# EAGLE library part LPC1837JBD144 (library everykey)
LPC Cortex M microcontroller, 18xx or 43xx series, JBD144 (LQFP 144) package
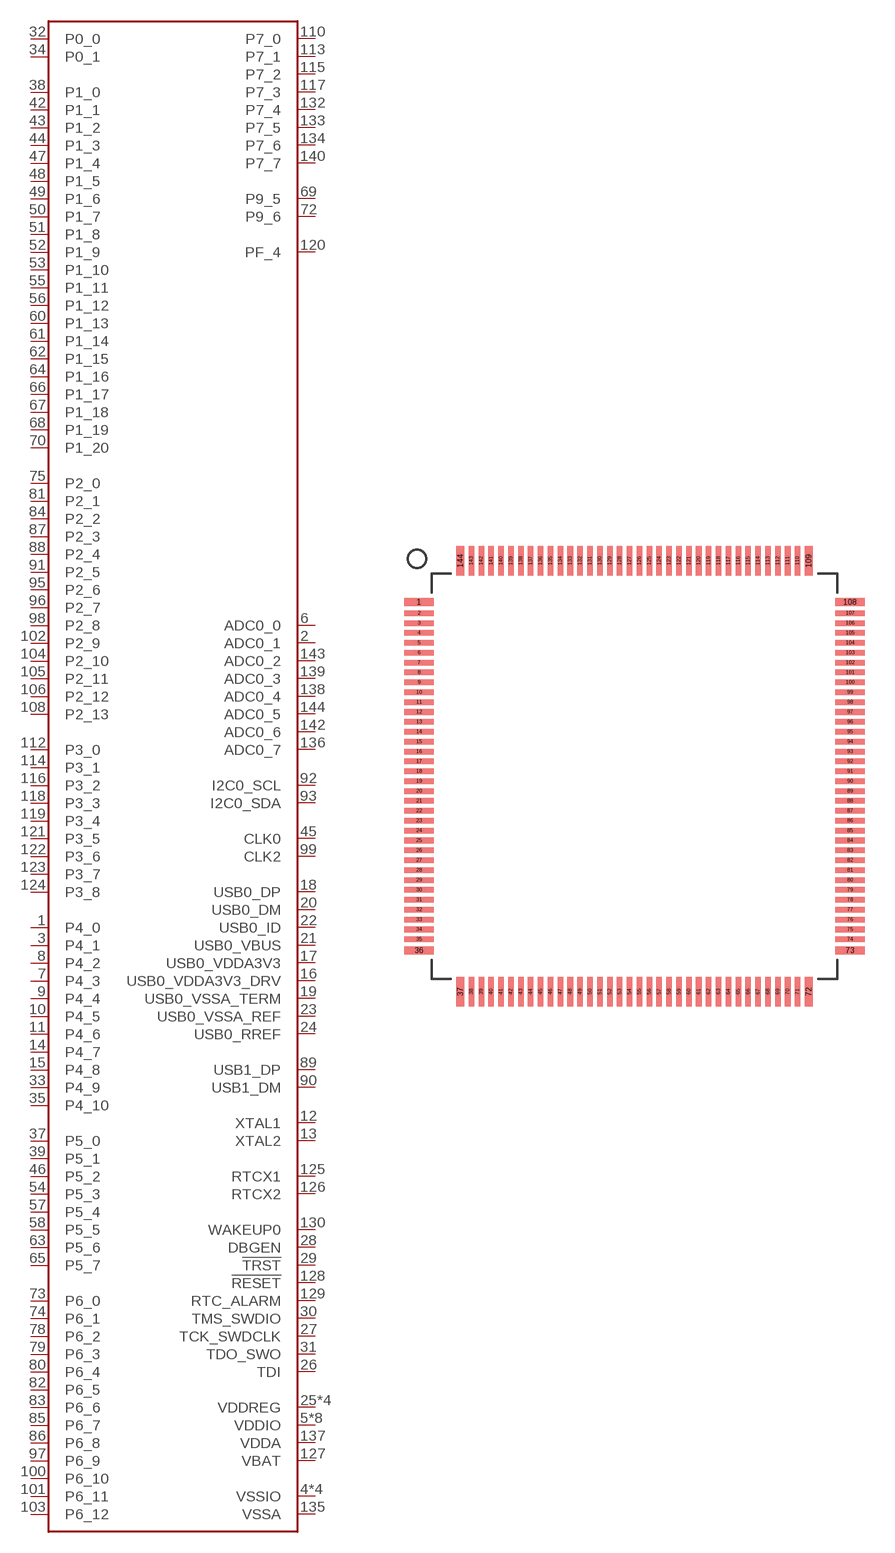
[diagram p29: symbol with the pads of QFP144-0.5; footprint QFP144-0.5]

Designator prefix -

## LPC1837JBD144QFP144  [QFP144-0.5]
1  P4_0
2  ADC0_1
3  P4_1
4  VSSIO
5  VDDIO
6  ADC0_0
7  P4_3
8  P4_2
9  P4_4
10  P4_5
11  P4_6
12  XTAL1
13  XTAL2
14  P4_7
15  P4_8
16  USB0_VDDA3V3_DRV  pwr
17  USB0_VDDA3V3  pwr
18  USB0_DP
19  USB0_VSSA_TERM  pwr
20  USB0_DM
21  USB0_VBUS
22  USB0_ID
23  USB0_VSSA_REF  pwr
24  USB0_RREF
25  VDDREG
26  TDI
27  TCK_SWDCLK
28  DBGEN
29  !TRST
30  TMS_SWDIO
31  TDO_SWO
32  P0_0
33  P4_9
34  P0_1
35  P4_10
36  VDDIO
37  P5_0
38  P1_0
39  P5_1
40  VSSIO
41  VDDIO
42  P1_1
43  P1_2
44  P1_3
45  CLK0
46  P5_2
47  P1_4
48  P1_5
49  P1_6
50  P1_7
51  P1_8
52  P1_9
53  P1_10
54  P5_3
55  P1_11
56  P1_12
57  P5_4
58  P5_5
59  VDDREG
60  P1_13
61  P1_14
62  P1_15
63  P5_6
64  P1_16
65  P5_7
66  P1_17
67  P1_18
68  P1_19
69  P9_5
70  P1_20
71  VDDIO
72  P9_6
73  P6_0
74  P6_1
75  P2_0
76  VSSIO
77  VDDIO
78  P6_2
79  P6_3
80  P6_4
81  P2_1
82  P6_5
83  P6_6
84  P2_2
85  P6_7
86  P6_8
87  P2_3
88  P2_4
89  USB1_DP
90  USB1_DM
91  P2_5
92  I2C0_SCL
93  I2C0_SDA
94  VDDREG
95  P2_6
96  P2_7
97  P6_9
98  P2_8
99  CLK2
100  P6_10
101  P6_11
102  P2_9
103  P6_12
104  P2_10
105  P2_11
106  P2_12
107  VDDIO
108  P2_13
109  VSSIO
110  P7_0
111  VDDIO
112  P3_0
113  P7_1
114  P3_1
115  P7_2
116  P3_2
117  P7_3
118  P3_3
119  P3_4
120  PF_4
121  P3_5
122  P3_6
123  P3_7
124  P3_8
125  RTCX1
126  RTCX2
127  VBAT
128  !RESET
129  RTC_ALARM
130  WAKEUP0
131  VDDREG
132  P7_4
133  P7_5
134  P7_6
135  VSSA
136  ADC0_7
137  VDDA
138  ADC0_4
139  ADC0_3
140  P7_7
141  VDDIO
142  ADC0_6
143  ADC0_2
144  ADC0_5

## Footprint QFP144-0.5 (pad centres in mm)
QFP package 144pin, 0.5mm pitch.
smd 1.5 x 0.4: 1 -10.9,8.81; 36 -10.9,-8.81; 73 10.9,-8.81; 108 10.9,8.81
smd 1.5 x 0.28: 2 -10.9,8.25; 3 -10.9,7.75; 4 -10.9,7.25; 5 -10.9,6.75; 6 -10.9,6.25; 7 -10.9,5.75; 8 -10.9,5.25; 9 -10.9,4.75; 10 -10.9,4.25; 11 -10.9,3.75; 12 -10.9,3.25; 13 -10.9,2.75; 14 -10.9,2.25; 15 -10.9,1.75; 16 -10.9,1.25; 17 -10.9,0.75; 18 -10.9,0.25; 19 -10.9,-0.25; 20 -10.9,-0.75; 21 -10.9,-1.25; 22 -10.9,-1.75; 23 -10.9,-2.25; 24 -10.9,-2.75; 25 -10.9,-3.25; 26 -10.9,-3.75; 27 -10.9,-4.25; 28 -10.9,-4.75; 29 -10.9,-5.25; 30 -10.9,-5.75; 31 -10.9,-6.25; 32 -10.9,-6.75; 33 -10.9,-7.25; 34 -10.9,-7.75; 35 -10.9,-8.25; 74 10.9,-8.25; 75 10.9,-7.75; 76 10.9,-7.25; 77 10.9,-6.75; 78 10.9,-6.25; 79 10.9,-5.75; 80 10.9,-5.25; 81 10.9,-4.75; 82 10.9,-4.25; 83 10.9,-3.75; 84 10.9,-3.25; 85 10.9,-2.75; 86 10.9,-2.25; 87 10.9,-1.75; 88 10.9,-1.25; 89 10.9,-0.75; 90 10.9,-0.25; 91 10.9,0.25; 92 10.9,0.75; 93 10.9,1.25; 94 10.9,1.75; 95 10.9,2.25; 96 10.9,2.75; 97 10.9,3.25; 98 10.9,3.75; 99 10.9,4.25; 100 10.9,4.75; 101 10.9,5.25; 102 10.9,5.75; 103 10.9,6.25; 104 10.9,6.75; 105 10.9,7.25; 106 10.9,7.75; 107 10.9,8.25
smd 0.4 x 1.5: 37 -8.81,-10.9; 72 8.81,-10.9; 109 8.81,10.9; 144 -8.81,10.9
smd 0.28 x 1.5: 38 -8.25,-10.9; 39 -7.75,-10.9; 40 -7.25,-10.9; 41 -6.75,-10.9; 42 -6.25,-10.9; 43 -5.75,-10.9; 44 -5.25,-10.9; 45 -4.75,-10.9; 46 -4.25,-10.9; 47 -3.75,-10.9; 48 -3.25,-10.9; 49 -2.75,-10.9; 50 -2.25,-10.9; 51 -1.75,-10.9; 52 -1.25,-10.9; 53 -0.75,-10.9; 54 -0.25,-10.9; 55 0.25,-10.9; 56 0.75,-10.9; 57 1.25,-10.9; 58 1.75,-10.9; 59 2.25,-10.9; 60 2.75,-10.9; 61 3.25,-10.9; 62 3.75,-10.9; 63 4.25,-10.9; 64 4.75,-10.9; 65 5.25,-10.9; 66 5.75,-10.9; 67 6.25,-10.9; 68 6.75,-10.9; 69 7.25,-10.9; 70 7.75,-10.9; 71 8.25,-10.9; 110 8.25,10.9; 111 7.75,10.9; 112 7.25,10.9; 113 6.75,10.9; 114 6.25,10.9; 115 5.75,10.9; 116 5.25,10.9; 117 4.75,10.9; 118 4.25,10.9; 119 3.75,10.9; 120 3.25,10.9; 121 2.75,10.9; 122 2.25,10.9; 123 1.75,10.9; 124 1.25,10.9; 125 0.75,10.9; 126 0.25,10.9; 127 -0.25,10.9; 128 -0.75,10.9; 129 -1.25,10.9; 130 -1.75,10.9; 131 -2.25,10.9; 132 -2.75,10.9; 133 -3.25,10.9; 134 -3.75,10.9; 135 -4.25,10.9; 136 -4.75,10.9; 137 -5.25,10.9; 138 -5.75,10.9; 139 -6.25,10.9; 140 -6.75,10.9; 141 -7.25,10.9; 142 -7.75,10.9; 143 -8.25,10.9